# Altium footprint library DIO_MBR1045STR.PcbLib: 1 footprints
Each footprint in its own frame and in the unit in brackets; x right, y up, seen from the top. Pads: shape width x height; smd on the part's side, far side on the other; paste and mask are expansions set on the pad; w line width, h text height; cw(c..) or ccw(c..) is an arc to the next point about the centre after c.
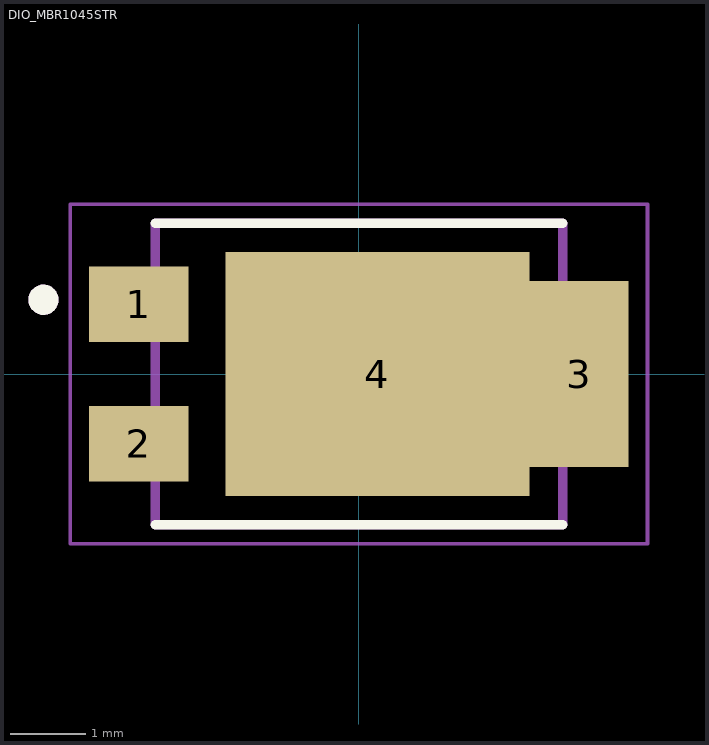
[diagram p0: the footprint, top view; thin cyan lines are the x and y axes]

## DIO_MBR1045STR [mm]
height 1.25
pads (4):
  rect 1.31x1 smd: 1(-2.905,0.92) 2(-2.905,-0.92)
  rect 1.31x2.46 smd: 3(2.905,0)
  rect 4.01x3.22 smd paste-3: 4(0.245,0)
Top Overlay:
  circle w0.2: c-4.165,0.98 r0.1
  lines w0.127: -2.69,-1.99 2.69,-1.99 ; -2.69,1.99 2.69,1.99
Top Paste:
  region: 1.515,-1.02 -1.025,-1.02 -1.025,1.02 1.515,1.02
Mechanical 13:
  circle w0.2: c-4.165,0.98 r0.1
  lines w0.127: -2.69,-1.99 2.69,-1.99 2.69,1.99 -2.69,1.99 -2.69,-1.99
Mechanical 15:
  lines w0.05: -3.81,-2.24 3.81,-2.24 3.81,2.24 -3.81,2.24 -3.81,-2.24